# Altium footprint library XG_DW_POCT_2K10LED_V2.0_2024.11.151.PcbLib: 120 footprints (part 6 of 8)
Each footprint in its own frame and in the unit in brackets; x right, y up, seen from the top. Pads: shape width x height; smd on the part's side, far side on the other; paste and mask are expansions set on the pad; w line width, h text height; cw(c..) or ccw(c..) is an arc to the next point about the centre after c.
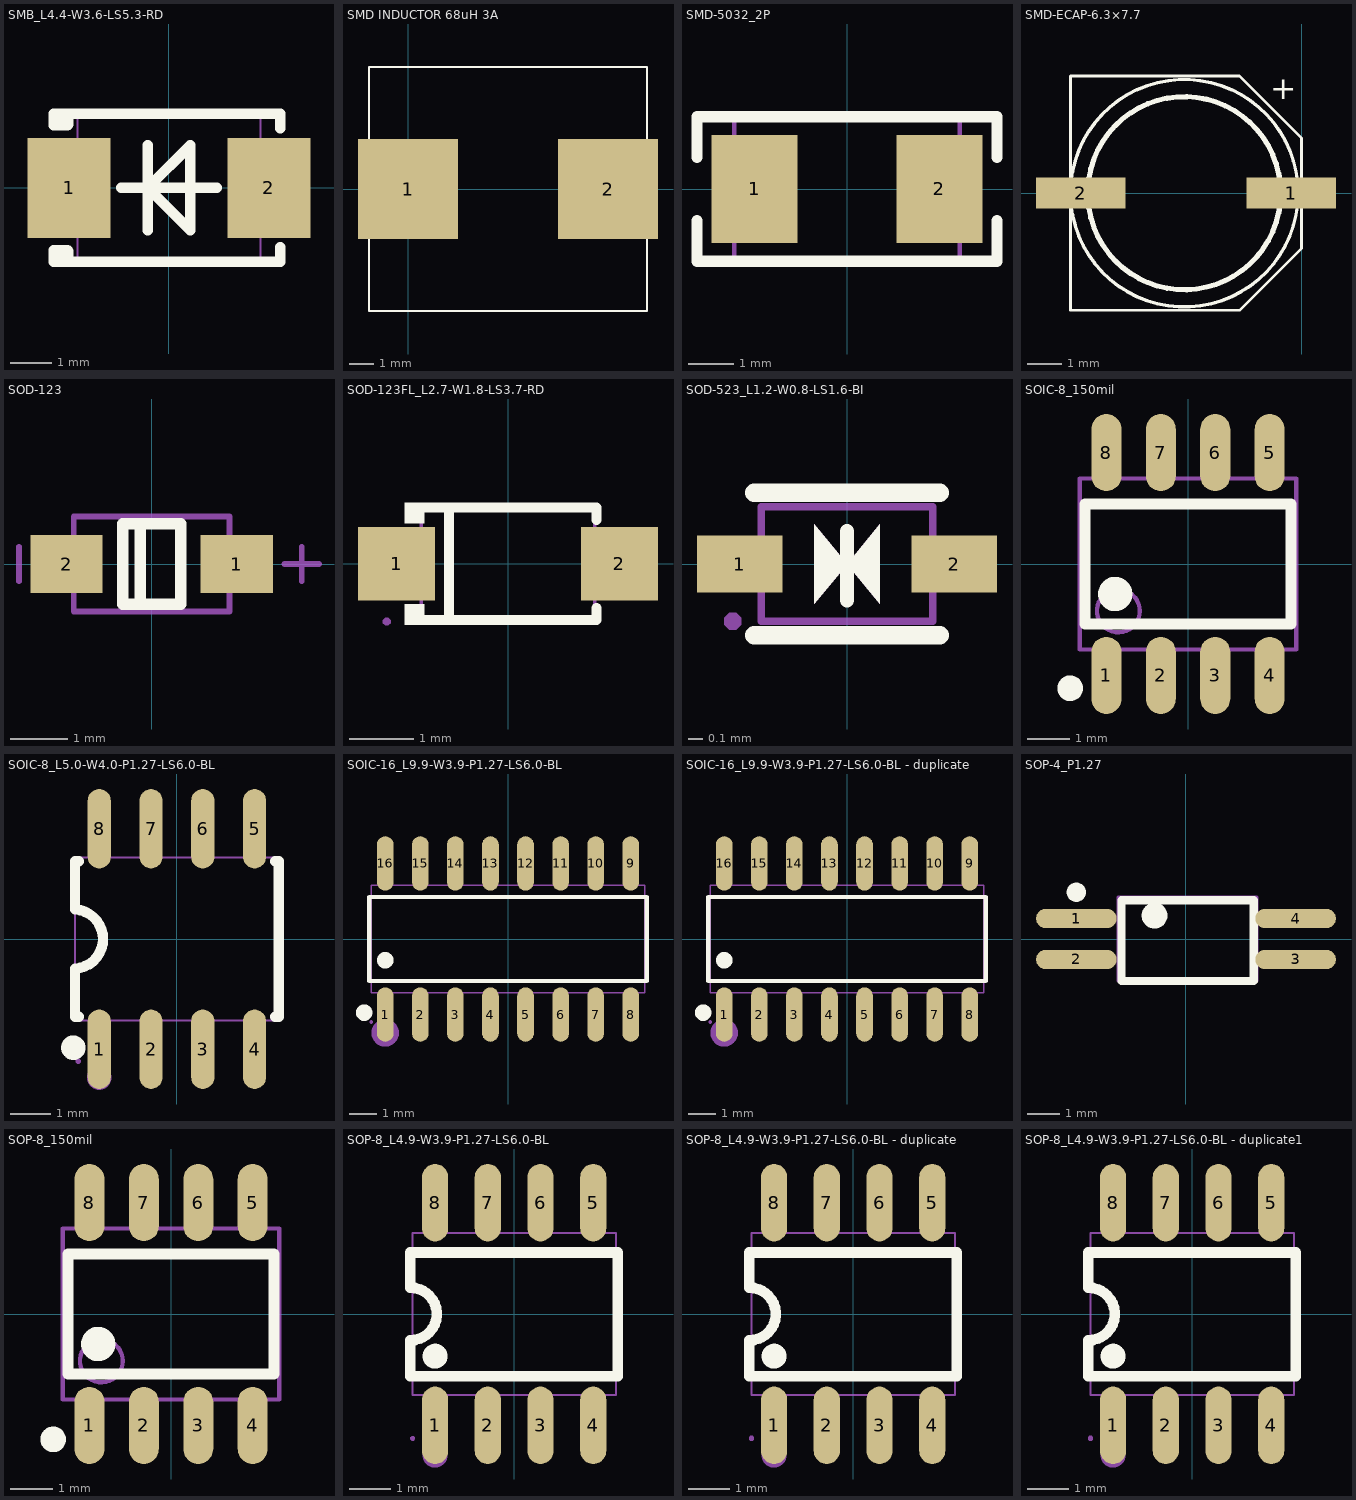
[diagram p5: the footprints below, top view; thin cyan lines are the x and y axes]

## SMB_L4.4-W3.6-LS5.3-RD [mm]
pads (2):
  rect 2x2.4 smd: 1(-2.4,0) 2(2.4,0)
Top Overlay:
  lines w0.254: -2.553,-1.778 -2.553,-1.501 ; -2.553,1.651 -2.553,1.501 ; -2.413,-1.778 -2.413,-1.524 -2.436,-1.501 -2.553,-1.501 ; -2.287,1.778 2.285,1.778 2.667,1.778 2.667,1.524 2.667,1.431 ; -1.143,0 1.143,0 ; -0.508,-1.016 -0.508,1.016 ; 2.667,-1.431 2.667,-1.778 2.286,-1.778 -2.552,-1.778 -2.763,-1.778 -2.763,-1.501 -2.553,-1.501 ; -2.553,1.501 -2.763,1.501 -2.763,1.778 -2.553,1.778 ; -2.553,1.501 -2.436,1.501 -2.413,1.524 -2.413,1.651 -2.553,1.778 ; -2.553,1.778 -2.286,1.778 -2.553,1.778 ; -0.508,0 0.508,-1.016 0.508,1.016 -0.508,0
Mechanical 6:
  region: -2.847,0.119 -1.831,0.119 -1.831,-0.135 -2.847,-0.135
  region: 2.179,-0.502 2.179,0.514 2.433,0.514 2.433,-0.502
  region: 1.785,0.127 2.801,0.127 2.801,-0.127 1.785,-0.127
Mechanical 15:
  region: 1.476,1.025 2.65,1.025 2.65,-1.025 1.476,-1.025
  region: -2.65,1.025 -1.476,1.025 -1.476,-1.025 -2.65,-1.025
  region: -2.59,-1.8 -2.591,-1.776 -2.626,-1.742 -2.674,-1.742 -2.709,-1.776 -2.71,-1.8 -2.709,-1.824 -2.674,-1.858 -2.626,-1.858 -2.591,-1.824 -2.59,-1.8
  lines w0.051: -2.2,-1.8 2.2,-1.8 2.2,1.8 -2.2,1.8 -2.2,-1.8

## SMD INDUCTOR 68uH 3A [mm]
height 5
pads (2):
  rect 4.1x4.1 smd: 1(0,0) 2(8.2,0)
Top Overlay:
  lines w0.076: -1.6,-5 -1.6,5 9.8,5 9.8,-5 -1.6,-5
3D body: height 5, standoff 0, extent -1.6,-5 9.8,5

## SMD-5032_2P [mm]
pads (2):
  rect 1.9x2.4 smd: 1(-2.05,0) 2(2.05,0)
Top Overlay:
  lines w0.254: -3.325,-0.7 -3.325,-1.6 3.325,-1.6 3.325,-0.7 ; -3.325,0.7 -3.325,1.6 3.325,1.6 3.325,0.7
Mechanical 13:
  lines w0.1: -2.5,-1.6 -2.5,1.6 2.5,1.6 2.5,-1.6 -2.5,-1.6

## SMD-ECAP-6.3×7.7 [mm]
height 7.7
pads (2):
  rect 2.6x0.9 smd: 1(-0.3,0) 2(-6.4,0)
Top Overlay:
  circle w0.1: c-3.4,0 r3.3
  circle w0.15: c-3.402,0 r2.8
  lines w0.076: -6.7,-3.4 -6.7,3.4 -1.8,3.4 0,1.6 0,-1.6 -1.8,-3.4 -6.7,-3.4
  text "+" at -0.9,2.5 h1.14
3D body: height 7.7, standoff 0, extent -6.7,-3.4 0,3.4

## SOD-123 [mm]
height 7.7
pads (2):
  rect 1.25x1 smd: 1(1.475,0) 2(-1.475,0)
Top Overlay:
  lines w0.2: -0.2,-0.7 -0.2,0.7 ; -0.5,-0.7 -0.5,0.7 0.5,0.7 0.5,-0.7 -0.5,-0.7
Mechanical 13:
  lines w0.1: -1.35,-0.825 1.35,-0.825 1.35,0.825 -1.35,0.825 -1.35,-0.825
Mechanical 15:
  lines w0.1: -2.3,-0.3 -2.3,0.3 ; 2.3,0 2.9,0 ; 2.6,-0.3 2.6,0.3
3D body "SOD123.STEP": height 1.35, standoff 0, extent -1.85,-0.775 1.85,0.775

## SOD-123FL_L2.7-W1.8-LS3.7-RD [mm]
pads (2):
  rect 1.2x1.15 smd: 1(-1.735,0) 2(1.735,0)
Top Overlay:
  region: -1.3,0.952 -1.3,0.632 -1.605,0.632 -1.605,0.952
  region: -1.3,-0.952 -1.3,-0.632 -1.605,-0.632 -1.605,-0.952
  lines w0.152: -1.376,-0.876 1.376,-0.876 1.376,-0.683 ; -1.376,0.876 1.376,0.876 1.376,0.683 ; -0.917,-0.876 -0.917,0.876
Mechanical 6:
  region: -2.032,0.127 -2.032,-0.065 -1.264,-0.065 -1.264,0.127
  region: 2.035,0.096 2.035,-0.096 1.267,-0.096 1.267,0.096
  region: 1.747,-0.384 1.555,-0.384 1.555,0.384 1.747,0.384
Mechanical 15:
  region: -1.827,-0.9 -1.828,-0.876 -1.863,-0.842 -1.912,-0.842 -1.947,-0.876 -1.947,-0.9 -1.946,-0.925 -1.912,-0.959 -1.863,-0.959 -1.828,-0.924 -1.827,-0.9
  region: -1.847,-0.45 -1.847,0.45 -1.247,0.45 -1.247,-0.45
  region: 1.85,-0.45 1.85,0.45 1.25,0.45 1.25,-0.45
  lines w0.051: -1.35,-0.9 -1.35,0.9 1.35,0.9 1.35,-0.9 -1.35,-0.9

## SOD-523_L1.2-W0.8-LS1.6-BI [mm]
pads (2):
  rect 0.6x0.4 smd: 1(-0.75,0) 2(0.75,0)
Top Overlay:
  region: 0,0 -0.229,-0.279 -0.229,0.279
  region: 0,0 0.229,0.279 0.229,-0.279
  lines w0.1: 0,-0.254 0,0.229
  lines w0.13: -0.65,-0.5 0.65,-0.5 ; -0.65,0.5 0.65,0.5
Mechanical 6:
  region: 0.229,0.279 0.229,-0.279 0,0
  region: -0.229,0.279 -0.229,-0.279 0,0
Mechanical 15:
  region: -0.8,0.15 -0.463,0.15 -0.463,-0.15 -0.8,-0.15
  region: 0.8,-0.152 0.463,-0.152 0.463,0.148 0.8,0.148
  region: -0.74,-0.4 -0.74,-0.425 -0.775,-0.46 -0.825,-0.46 -0.86,-0.425 -0.86,-0.4 -0.86,-0.375 -0.825,-0.34 -0.775,-0.34 -0.74,-0.375 -0.74,-0.4
  lines w0.051: -0.6,-0.4 0.6,-0.4 0.6,0.4 -0.6,0.4 -0.6,-0.4

## SOIC-8_150mil [mm]
pads (8):
  oval 0.7x1.8 smd: 1(-1.905,-2.6) 2(-0.635,-2.6) 3(0.635,-2.6) 4(1.905,-2.6) 5(1.905,2.6) 6(0.635,2.6) 7(-0.635,2.6) 8(-1.905,2.6)
Top Overlay:
  circle w0.4: c-1.7,-0.7 r0.2
  circle w0.3: c-2.75,-2.9 r0.15
  lines w0.254: -2.4,-1.4 -2.4,1.4 2.4,1.4 2.4,-1.4 -2.4,-1.4
Mechanical 13:
  circle w0.1: c-1.625,-1.095 r0.5
  lines w0.1: -2.525,-1.995 -2.525,1.995 2.525,1.995 2.525,-1.995 -2.525,-1.995

## SOIC-8_L5.0-W4.0-P1.27-LS6.0-BL [mil]
pads (8):
  oval 22.38x76.78 smd: 1(-75,-106.5) 2(-25,-106.5) 3(25,-106.5) 4(75,-106.5) 5(75,106.5) 6(25,106.5) 7(-25,106.5) 8(-75,106.5)
Top Overlay:
  circle w11.81: c-100,-105 r5.91
  lines w10: -98.43,-28.61 ccw(c-99.99,0) -98.23,28.59 ; -98.42,-28.61 -98.42,-59.05 -98.42,-75 -94.83,-75 ; -98.42,28.59 -98.42,59.05 -98.42,75 -94.83,75 ; 94.83,-75 98.42,-75 98.42,-59.05 98.42,59.05 98.42,75 94.83,75
Mechanical 6:
  circle w11.81: c-75,-133.86 r5.91
Mechanical 15:
  region: -83.07,-118.11 -83.07,-85.24 -66.93,-85.24 -66.93,-118.11
  region: -83.07,-85.63 -83.07,-76.38 -66.93,-76.38 -66.93,-85.63
  region: -33.07,-118.11 -33.07,-85.24 -16.93,-85.24 -16.93,-118.11
  region: -33.07,-85.63 -33.07,-76.38 -16.93,-76.38 -16.93,-85.63
  region: 16.93,-118.11 16.93,-85.24 33.07,-85.24 33.07,-118.11
  region: 16.93,-85.63 16.93,-76.38 33.07,-76.38 33.07,-85.63
  region: 66.93,-118.11 66.93,-85.24 83.07,-85.24 83.07,-118.11
  region: 66.93,-85.63 66.93,-76.38 83.07,-76.38 83.07,-85.63
  region: -83.07,85.24 -83.07,118.11 -66.93,118.11 -66.93,85.24
  region: -83.07,76.38 -83.07,85.63 -66.93,85.63 -66.93,76.38
  region: -33.07,85.24 -33.07,118.11 -16.93,118.11 -16.93,85.24
  region: -33.07,76.38 -33.07,85.63 -16.93,85.63 -16.93,76.38
  region: 16.93,85.24 16.93,118.11 33.07,118.11 33.07,85.24
  region: 16.93,76.38 16.93,85.63 33.07,85.63 33.07,76.38
  region: 66.93,85.24 66.93,118.11 83.07,118.11 83.07,85.24
  region: 66.93,76.38 66.93,85.63 83.07,85.63 83.07,76.38
  region: -92.92,-118.11 -92.92,-117.13 -94.3,-115.75 -96.26,-115.75 -97.64,-117.13 -97.64,-118.11 -97.64,-119.09 -96.26,-120.47 -94.3,-120.47 -92.92,-119.09 -92.92,-118.11
  lines w2: -98.42,-78.74 98.42,-78.74 98.42,78.74 -98.42,78.74 -98.42,-78.74

## SOIC-16_L9.9-W3.9-P1.27-LS6.0-BL [mm]
pads (16):
  oval 0.602x1.971 smd: 1(-4.445,-2.736) 2(-3.175,-2.736) 3(-1.905,-2.736) 4(-0.635,-2.736) 5(0.635,-2.736) 6(1.905,-2.736) 7(3.175,-2.736) 8(4.445,-2.736) 9(4.445,2.736) 10(3.175,2.736) 11(1.905,2.736) 12(0.635,2.736) 13(-0.635,2.736) 14(-1.905,2.736) 15(-3.175,2.736) 16(-4.445,2.736)
Top Overlay:
  circle w0.3: c-5.207,-2.667 r0.15
  circle w0.3: c-4.445,-0.769 r0.15
  lines w0.152: -5.026,-1.521 5.026,-1.521 5.026,1.521 -5.026,1.521 -5.026,-1.521
Mechanical 6:
  circle w0.5: c-4.445,-3.4 r0.25
Mechanical 15:
  drawing of 37 lines, arcs and shapes, not listed

## SOIC-16_L9.9-W3.9-P1.27-LS6.0-BL - duplicate [mm]
pads (16):
  oval 0.602x1.971 smd: 1(-4.445,-2.736) 2(-3.175,-2.736) 3(-1.905,-2.736) 4(-0.635,-2.736) 5(0.635,-2.736) 6(1.905,-2.736) 7(3.175,-2.736) 8(4.445,-2.736) 9(4.445,2.736) 10(3.175,2.736) 11(1.905,2.736) 12(0.635,2.736) 13(-0.635,2.736) 14(-1.905,2.736) 15(-3.175,2.736) 16(-4.445,2.736)
Top Overlay:
  circle w0.3: c-4.445,-0.769 r0.15
  circle w0.3: c-5.207,-2.667 r0.15
  lines w0.152: -5.026,-1.521 -5.026,1.521 5.026,1.521 5.026,-1.521 -5.026,-1.521
Mechanical 6:
  circle w0.5: c-4.445,-3.4 r0.25
Mechanical 15:
  drawing of 37 lines, arcs and shapes, not listed

## SOP-4_P1.27 [mm]
height 7
pads (4):
  oval 2.5x0.6 smd: 1(-3.4,0.635) 2(-3.4,-0.635) 3(3.4,-0.635) 4(3.4,0.635)
Top Overlay:
  circle w0.3: c-3.4,1.45 r0.15
  circle w0.4: c-0.975,0.725 r0.2
  lines w0.254: -2,-1.3 -2,1.2 2.1,1.2 2.1,-1.3 -2,-1.3
Mechanical 13:
  lines w0.1: -2.1,-1.3 -2.1,1.3 2.2,1.3 2.2,-1.3 -2.1,-1.3

## SOP-8_150mil [mm]
height 7.7
pads (8):
  oval 0.7x1.8 smd: 1(-1.905,-2.6) 2(-0.635,-2.6) 3(0.635,-2.6) 4(1.905,-2.6) 5(1.905,2.6) 6(0.635,2.6) 7(-0.635,2.6) 8(-1.905,2.6)
Top Overlay:
  circle w0.4: c-1.7,-0.7 r0.2
  circle w0.3: c-2.75,-2.925 r0.15
  lines w0.254: -2.4,-1.4 -2.4,1.4 2.4,1.4 2.4,-1.4 -2.4,-1.4
Mechanical 13:
  circle w0.1: c-1.625,-1.095 r0.5
  lines w0.1: -2.525,-1.995 -2.525,1.995 2.525,1.995 2.525,-1.995 -2.525,-1.995
3D body "User Library-SOIC-8-150.STEP": height 1.75, standoff 0, extent -2.5,-3.1 2.5,3.1

## SOP-8_L4.9-W3.9-P1.27-LS6.0-BL [mm]
pads (8):
  oval 0.63x1.865 smd: 1(-1.905,-2.682) 2(-0.635,-2.682) 3(0.635,-2.682) 4(1.905,-2.682) 5(1.905,2.682) 6(0.635,2.682) 7(-0.635,2.682) 8(-1.905,2.682)
Top Overlay:
  circle w0.3: c-1.905,-1.016 r0.15
  lines w0.254: -2.5,-1.498 2.5,-1.498 2.5,1.482 -2.5,1.482 -2.499,0.635 cw(c-2.5,0) -2.5,-0.635 -2.5,-1.498
Mechanical 6:
  circle w0.3: c-1.905,-3.4 r0.15
Mechanical 15:
  region: 2.115,-2.232 1.695,-2.232 1.695,-1.942 2.115,-1.942
  region: 0.845,-2.232 0.425,-2.232 0.425,-1.942 0.845,-1.942
  region: -0.425,-2.232 -0.845,-2.232 -0.845,-1.942 -0.425,-1.942
  region: -1.695,-2.232 -2.115,-2.232 -2.115,-1.942 -1.695,-1.942
  region: -2.115,2.232 -1.695,2.232 -1.695,1.942 -2.115,1.942
  region: -0.845,2.232 -0.425,2.232 -0.425,1.942 -0.845,1.942
  region: 0.425,2.232 0.845,2.232 0.845,1.942 0.425,1.942
  region: 1.695,2.232 2.115,2.232 2.115,1.942 1.695,1.942
  region: -2.115,-3 -2.115,-2.165 -1.695,-2.165 -1.695,-3
  region: -0.845,-3 -0.845,-2.165 -0.425,-2.165 -0.425,-3
  region: 0.425,-3 0.425,-2.165 0.845,-2.165 0.845,-3
  region: 1.695,-3 1.695,-2.165 2.115,-2.165 2.115,-3
  region: -2.115,2.165 -2.115,3 -1.695,3 -1.695,2.165
  region: -0.845,2.165 -0.845,3 -0.425,3 -0.425,2.165
  region: 0.425,2.165 0.425,3 0.845,3 0.845,2.165
  region: 1.695,2.165 1.695,3 2.115,3 2.115,2.165
  region: -2.39,-3 -2.391,-2.976 -2.426,-2.942 -2.474,-2.942 -2.509,-2.976 -2.51,-3 -2.509,-3.024 -2.474,-3.058 -2.426,-3.058 -2.391,-3.024 -2.39,-3
  lines w0.051: -2.45,-1.95 2.45,-1.95 2.45,1.95 -2.45,1.95 -2.45,-1.95

## SOP-8_L4.9-W3.9-P1.27-LS6.0-BL - duplicate [mm]
pads (8):
  oval 0.63x1.865 smd: 1(-1.905,-2.682) 2(-0.635,-2.682) 3(0.635,-2.682) 4(1.905,-2.682) 5(1.905,2.682) 6(0.635,2.682) 7(-0.635,2.682) 8(-1.905,2.682)
Top Overlay:
  circle w0.3: c-1.905,-1.016 r0.15
  lines w0.254: -2.5,-1.498 -2.5,-0.635 ccw(c-2.5,0) -2.499,0.635 -2.499,1.482 2.5,1.482 2.5,-1.498 -2.5,-1.498
Mechanical 6:
  circle w0.3: c-1.905,-3.4 r0.15
Mechanical 15:
  region: -2.39,-3 -2.39,-3.025 -2.425,-3.06 -2.475,-3.06 -2.51,-3.025 -2.51,-3 -2.51,-2.975 -2.475,-2.94 -2.425,-2.94 -2.39,-2.975 -2.39,-3
  region: 1.695,2.165 1.695,3 2.115,3 2.115,2.165
  region: 0.425,2.165 0.425,3 0.845,3 0.845,2.165
  region: -0.845,2.165 -0.845,3 -0.425,3 -0.425,2.165
  region: -2.115,2.165 -2.115,3 -1.695,3 -1.695,2.165
  region: 1.695,-3 1.695,-2.165 2.115,-2.165 2.115,-3
  region: 0.425,-3 0.425,-2.165 0.845,-2.165 0.845,-3
  region: -0.845,-3 -0.845,-2.165 -0.425,-2.165 -0.425,-3
  region: -2.115,-3 -2.115,-2.165 -1.695,-2.165 -1.695,-3
  region: 1.695,2.232 2.115,2.232 2.115,1.942 1.695,1.942
  region: 0.425,2.232 0.845,2.232 0.845,1.942 0.425,1.942
  region: -0.845,2.232 -0.425,2.232 -0.425,1.942 -0.845,1.942
  region: -2.115,2.232 -1.695,2.232 -1.695,1.942 -2.115,1.942
  region: -1.695,-2.232 -2.115,-2.232 -2.115,-1.942 -1.695,-1.942
  region: -0.425,-2.232 -0.845,-2.232 -0.845,-1.942 -0.425,-1.942
  region: 0.845,-2.232 0.425,-2.232 0.425,-1.942 0.845,-1.942
  region: 2.115,-2.232 1.695,-2.232 1.695,-1.942 2.115,-1.942
  lines w0.051: -2.45,-1.95 -2.45,1.95 2.45,1.95 2.45,-1.95 -2.45,-1.95

## SOP-8_L4.9-W3.9-P1.27-LS6.0-BL - duplicate1 [mm]
pads (8):
  oval 0.63x1.865 smd: 1(-1.905,-2.682) 2(-0.635,-2.682) 3(0.635,-2.682) 4(1.905,-2.682) 5(1.905,2.682) 6(0.635,2.682) 7(-0.635,2.682) 8(-1.905,2.682)
Top Overlay:
  circle w0.3: c-1.905,-1.016 r0.15
  lines w0.254: -2.5,-1.498 -2.5,-0.635 ccw(c-2.5,0) -2.499,0.635 -2.499,1.482 2.5,1.482 2.5,-1.498 -2.5,-1.498
Mechanical 6:
  circle w0.3: c-1.905,-3.4 r0.15
Mechanical 15:
  region: -2.39,-3 -2.39,-3.025 -2.425,-3.06 -2.475,-3.06 -2.51,-3.025 -2.51,-3 -2.51,-2.975 -2.475,-2.94 -2.425,-2.94 -2.39,-2.975 -2.39,-3
  region: 1.695,2.165 1.695,3 2.115,3 2.115,2.165
  region: 0.425,2.165 0.425,3 0.845,3 0.845,2.165
  region: -0.845,2.165 -0.845,3 -0.425,3 -0.425,2.165
  region: -2.115,2.165 -2.115,3 -1.695,3 -1.695,2.165
  region: 1.695,-3 1.695,-2.165 2.115,-2.165 2.115,-3
  region: 0.425,-3 0.425,-2.165 0.845,-2.165 0.845,-3
  region: -0.845,-3 -0.845,-2.165 -0.425,-2.165 -0.425,-3
  region: -2.115,-3 -2.115,-2.165 -1.695,-2.165 -1.695,-3
  region: 1.695,2.232 2.115,2.232 2.115,1.942 1.695,1.942
  region: 0.425,2.232 0.845,2.232 0.845,1.942 0.425,1.942
  region: -0.845,2.232 -0.425,2.232 -0.425,1.942 -0.845,1.942
  region: -2.115,2.232 -1.695,2.232 -1.695,1.942 -2.115,1.942
  region: -1.695,-2.232 -2.115,-2.232 -2.115,-1.942 -1.695,-1.942
  region: -0.425,-2.232 -0.845,-2.232 -0.845,-1.942 -0.425,-1.942
  region: 0.845,-2.232 0.425,-2.232 0.425,-1.942 0.845,-1.942
  region: 2.115,-2.232 1.695,-2.232 1.695,-1.942 2.115,-1.942
  lines w0.051: -2.45,-1.95 -2.45,1.95 2.45,1.95 2.45,-1.95 -2.45,-1.95